# Altium footprint library key.PcbLib: 1 footprints
Each footprint in its own frame and in the unit in brackets; x right, y up, seen from the top. Pads: shape width x height; smd on the part's side, far side on the other; paste and mask are expansions set on the pad; w line width, h text height; cw(c..) or ccw(c..) is an arc to the next point about the centre after c.
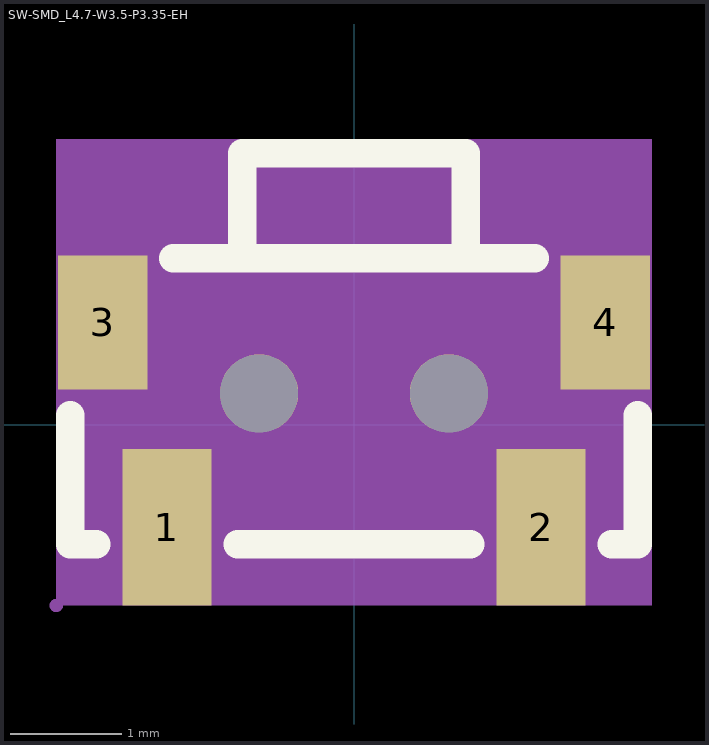
[diagram p0: the footprint, top view; thin cyan lines are the x and y axes]

## SW-SMD_L4.7-W3.5-P3.35-EH [mm]
pads (6):
  rect 0.8x1.4 smd: 1(-1.675,-0.917) 2(1.675,-0.917)
  rect 0.8x1.2 smd: 3(-2.25,0.917) 4(2.25,0.917)
  round 0.7 hole 0.7 unplated: ""(-0.85,0.282) ""(0.85,0.282)
Top Overlay:
  lines w0.254: -2.54,0.086 -2.54,-1.068 -2.306,-1.068 ; -1.619,1.494 0.088,1.494 1.619,1.494 ; -1.044,-1.068 0.088,-1.068 1.044,-1.068 ; -1,1.494 -1,2.433 1,2.433 1,1.513 ; 2.306,-1.068 2.54,-1.068 2.54,0.086
Mechanical 4:
  region: -2.667,2.56 2.667,2.56 2.667,-1.617 -2.667,-1.617
Mechanical 5:
  circle w0.25: c-0.85,0.282 r0.125
  circle w0.25: c0.85,0.282 r0.125
  region: -2.075,-0.218 -1.275,-0.218 -1.275,-1.617 -2.075,-1.617
  region: 1.275,-0.218 2.075,-0.218 2.075,-1.617 1.275,-1.617
  region: -2.65,1.517 -1.85,1.517 -1.85,0.318 -2.65,0.318
  region: 1.85,1.517 2.65,1.517 2.65,0.318 1.85,0.318
Mechanical 6:
  circle w0.06: c-2.667,-1.617 r0.03